# Altium footprint library DAC80501MDQFR.PcbLib: 1 footprints
Each footprint in its own frame and in the unit in brackets; x right, y up, seen from the top. Pads: shape width x height; smd on the part's side, far side on the other; paste and mask are expansions set on the pad; w line width, h text height; cw(c..) or ccw(c..) is an arc to the next point about the centre after c.
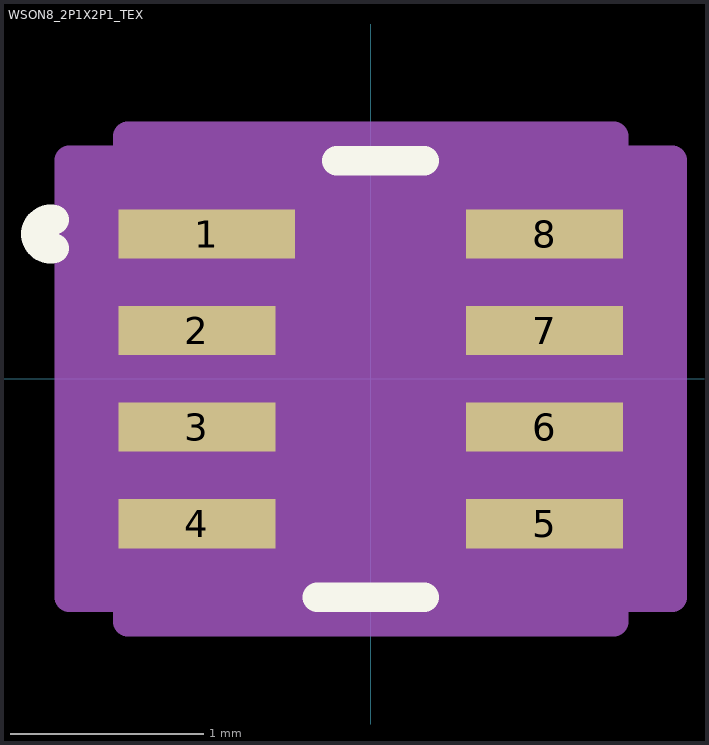
[diagram p0: the footprint, top view; thin cyan lines are the x and y axes]

## WSON8_2P1X2P1_TEX [mil]
pads (8):
  rect 36x10 smd paste+0 mask+0: 1(-33.43,29.53)
  rect 32x10 smd paste+0 mask+0: 2(-35.43,9.84) 3(-35.43,-9.84) 4(-35.43,-29.53) 5(35.43,-29.53) 6(35.43,-9.84) 7(35.43,9.84) 8(35.43,29.53)
Top Overlay:
  lines w6: -64.53,26.62 cw(c-65.28,29.53) -64.53,32.43 ; -10.94,-44.5 10.94,-44.5 ; -6.94,44.5 10.94,44.5
Mechanical 13:
  circle w0: c-19.43,29.53 r3
  lines w0: -12,39.5 ccw(c0,39.5) 12,39.5
  lines w1: -39.5,-39.5 39.5,-39.5 39.5,39.5 -39.5,39.5 -39.5,-39.5
Mechanical 15:
  region: -49.5,-44.53 -61.43,-44.53 -61.43,44.53 -49.5,44.53 -49.5,49.5 49.5,49.5 49.5,44.53 61.43,44.53 61.43,-44.53 49.5,-44.53 49.5,-49.5 -49.5,-49.5
  lines w6: -61.43,-44.53 -61.43,44.53 -49.5,44.53 -49.5,49.5 49.5,49.5 49.5,44.53 61.43,44.53 61.43,-44.53 49.5,-44.53 49.5,-49.5 -49.5,-49.5 -49.5,-44.53 -61.43,-44.53
3D body "WSON8_2P1X2P1_TEX.step": height 32.09, standoff 0, extent -39.49,-39.49 39.49,39.49